# EAGLE library part 5560ИН2Т (library transceivers)
АЕЯР.431200.765-02 ТУ 5560ИН2Т - 4-разрядный дифференциальный магистральный приемник последовательных данных по стандарту LVDS. Микросхема представляет собой сверхбыстродействующий интерфейсный счетверенный линейный приемник с дифференциальным входом стандарта LVDS.
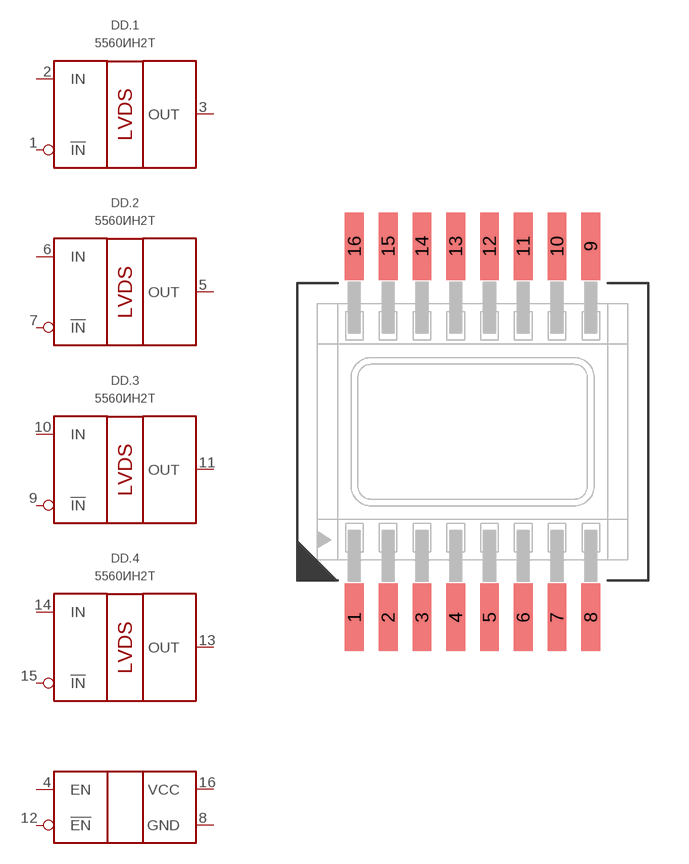
[diagram p9: symbol with the pads of 402.16-32; footprint 402.16-32]

Designator prefix DD; gates .2=5560ИН2Т .1=5560ИН2Т .3=5560ИН2Т .4=5560ИН2Т .PWR=LVDS_PWR

## 5560ИН2Т  [402.16-32]
1  .1:!IN  in
2  .1:IN  in
3  .1:OUT  out
4  .PWR:EN  in
5  .2:OUT  out
6  .2:IN  in
7  .2:!IN  in
8  .PWR:GND  pwr
9  .3:!IN  in
10  .3:IN  in
11  .3:OUT  out
12  .PWR:!EN  in
13  .4:OUT  out
14  .4:IN  in
15  .4:!IN  in
16  .PWR:VCC  pwr

## Footprint 402.16-32 (pad centres in mm)
smd 0.7 x 2.5: 1 -4.375,-6.875; 2 -3.125,-6.875; 3 -1.875,-6.875; 4 -0.625,-6.875; 5 0.625,-6.875; 6 1.875,-6.875; 7 3.125,-6.875; 8 4.375,-6.875; 9 4.375,6.875; 10 3.125,6.875; 11 1.875,6.875; 12 0.625,6.875; 13 -0.625,6.875; 14 -1.875,6.875; 15 -3.125,6.875; 16 -4.375,6.875